# EAGLE library part ATTINY85 (library trash-robot-eagle-library)
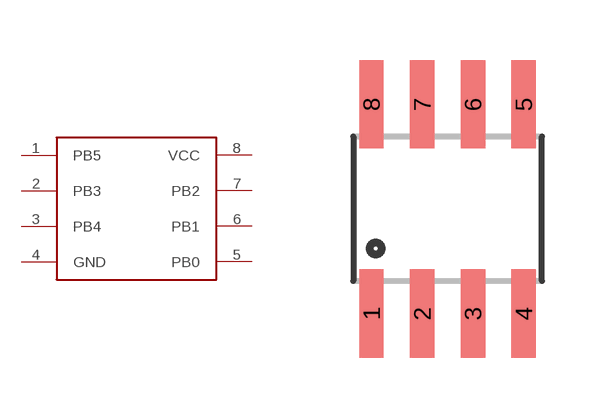
[diagram p16: symbol with the pads of 8-SOIC; footprint 8-SOIC]

Designator prefix -

## ATTINY85  [8-SOIC]
1  PB5
2  PB3
3  PB4
4  GND
5  PB0
6  PB1
7  PB2
8  VCC

## Footprint 8-SOIC (pad centres in mm)
smd 0.61 x 2.21: 1 -1.905,-2.616; 2 -0.635,-2.616; 3 0.635,-2.616; 4 1.905,-2.616; 5 1.905,2.616; 6 0.635,2.616; 7 -0.635,2.616; 8 -1.905,2.616